# Altium schematic symbol library Transrs.SchLib: 45 symbols
Pins are listed as number, name and electrical type; pins without a type are passive.

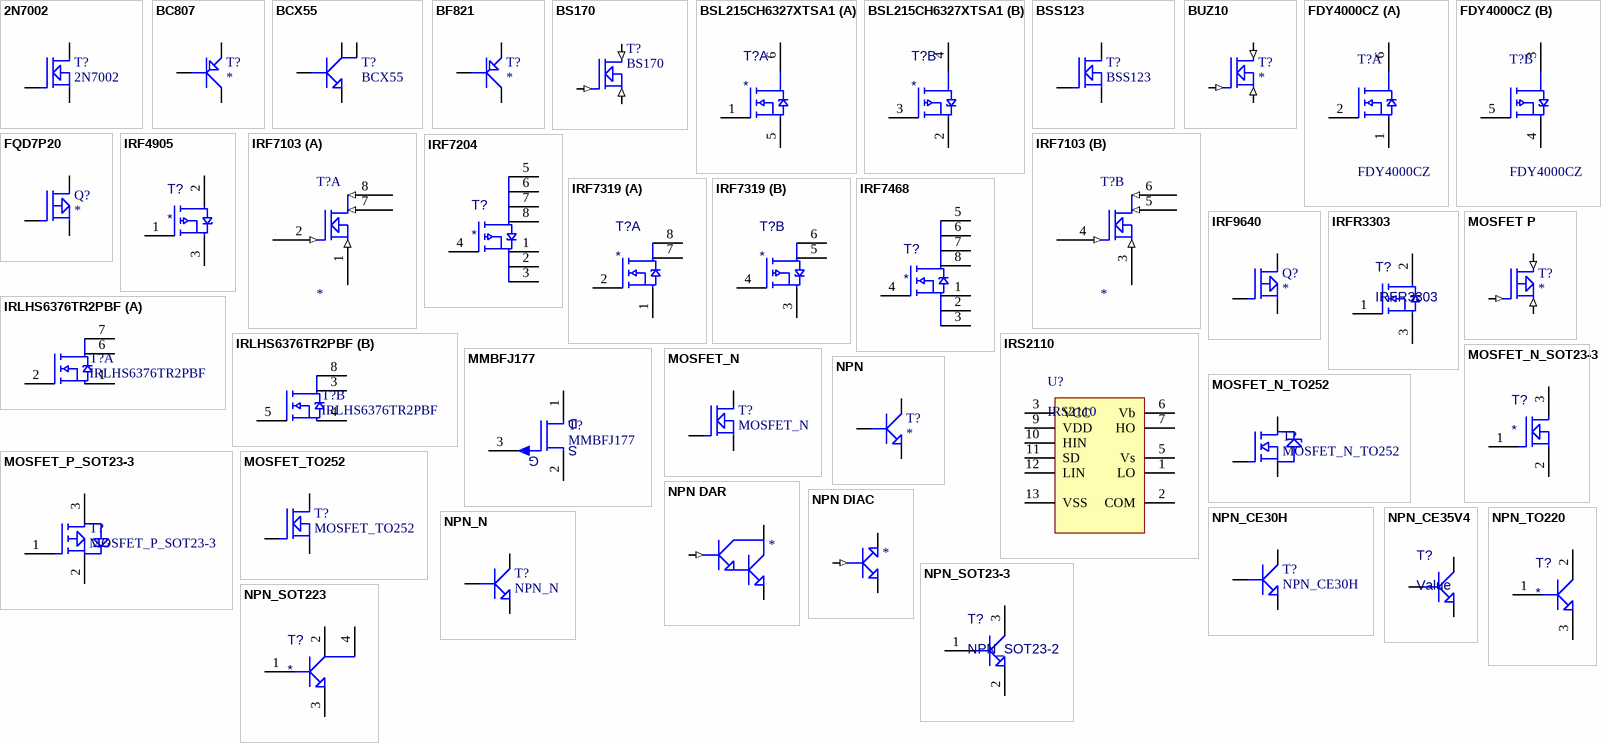
[diagram p0: symbols 2N7002 to NPN_TO220]

## 2N7002
designator T?
Value: 2N7002
simulation model F2N7002 (Power Discrete MOSFET Electrical Circuit Model)
pins: DRAIN, GATE, SOURCE

## BC807
designator T?
footprint BC817
footprint CE35V4
pins: BASE, COLL, EMIT

## BCX55
designator T?
SMD Transistor NPN; Value: BCX55
pins: 1, 2, 3, 4

## BF821
designator T?
simulation model BF821 (Model Description)
pins: BASE, COLL, EMIT

## BS170
designator T?
Value: BS170
footprint CE35V4
pins: BASE (in), COLL (in), EMIT (in)

## BSL215CH6327XTSA1
designator T?
Value: *
part A pins: 1 GATE, 5 SOURCE, 6 DRAIN
part B pins: 2 SOURCE, 3 GATE, 4 DRAIN

## BSS123
designator T?
Value: BSS123
pins: BASE, COLL, EMIT

## BUZ10
designator T?
footprint CE30
footprint CE30H
pins: BASE (in), COLL (in), EMIT (in)

## FDY4000CZ
designator T?
Value: FDY4000CZ
part A pins: 1 SOURCE, 2 GATE, 6 DRAIN
part B pins: 3 DRAIN, 4 SOURCE, 5 GATE

## FQD7P20
designator Q?
simulation model FQD7P20 (FQD7P20 200V P-CHANNEL DMOSFET ELECTRICAL PARAMETERS)
pins: DRAIN, GATE, SOURCE

## IRF4905
designator T?
Value: *
pins: 1 GATE, 2 DRAIN, 3 SOURCE

## IRF7103
designator T?
footprint 8SOIC150
part A pins: 1 SOURCE (in), 2 GATE (in), 7 DRAIN (in), 8 DRAIN (in)
part B pins: 3 SOURCE (in), 4 GATE (in), 5 DRAIN (in), 6 DRAIN (in)

## IRF7204
designator T?
Value: *
pins: 1 GATE, 2 DRAIN, 3 SOURCE, 4, 5, 6, 7, 8

## IRF7319
designator T?
Value: *
part A pins: 1 SOURCE, 2 GATE, 7 DRAIN, 8 DRAIN
part B pins: 3 SOURCE, 4 GATE, 5 DRAIN, 6 DRAIN

## IRF7468
designator T?
Value: *
pins: 1 GATE, 2 DRAIN, 3 SOURCE, 4, 5, 6, 7, 8

## IRF9640
designator Q?
pins: DRAIN, GATE, SOURCE

## IRFR3303
designator T?
Value: IRFR3303
pins: 1 GATE, 2 DRAIN, 3 SOURCE

## IRLHS6376TR2PBF
designator T?
Value: IRLHS6376TR2PBF
part A pins: 1 S1, 2 G1, 6 D1, 7 D1
part B pins: 3 D2, 4 S2, 5 G2, 8 D2

## IRS2110
designator U?
Value: IRS2110
pins: 1 LO, 2 COM, 3 VCC, 5 Vs, 6 Vb, 7 HO, 9 VDD, 10 HIN, 11 SD, 12 LIN, 13 VSS

## MMBFJ177
designator T?
Value: MMBFJ177
pins: 1 DRAIN, 2 SOURCE, 3 GATE
text: D; S; G

## MOSFET P
designator T?
pins: DRAIN (in), GATE (in), SOURCE (in)

## MOSFET_N
designator T?
Value: MOSFET_N
pins: BASE, COLL, EMIT

## MOSFET_N_SOT23-3
designator T?
Value: *
pins: 1 GATE, 2 SOURCE, 3 DRAIN

## MOSFET_N_TO252
designator T?
Value: MOSFET_N_TO252
pins: 1, 2, 3

## MOSFET_P_SOT23-3
designator T?
Value: MOSFET_P_SOT23-3
pins: 1 GATE, 2 SOURCE, 3 DRAIN

## MOSFET_TO252
designator T?
Value: MOSFET_TO252
footprint TO-252
pins: 1, 2, 3

## NPN
designator T?
pins: BASE, COLL, EMIT

## NPN DAR
designator ?
pins: BASE (in), COLL, EMIT

## NPN DIAC
designator ?
pins: BASE (in), COLL, EMIT

## NPN_CE30H
designator T?
Value: NPN_CE30H
pins: BASE, COLL, EMIT

## NPN_CE35V4
designator T?, comment Value
Value: Value
pins: BASE, COLL, EMIT

## NPN_N
designator T?
Value: NPN_N
pins: BASE, COLL, EMIT

## NPN_SOT23-3
designator T?, comment NPN_SOT23-2
Value: NPN_SOT23-2
pins: 1, 2, 3

## NPN_SOT223
designator T?
Value: *
pins: 1, 2, 3, 4

## NPN_TO220
designator T?
Value: *
pins: 1 BASE, 2 COLL, 3 EMIT

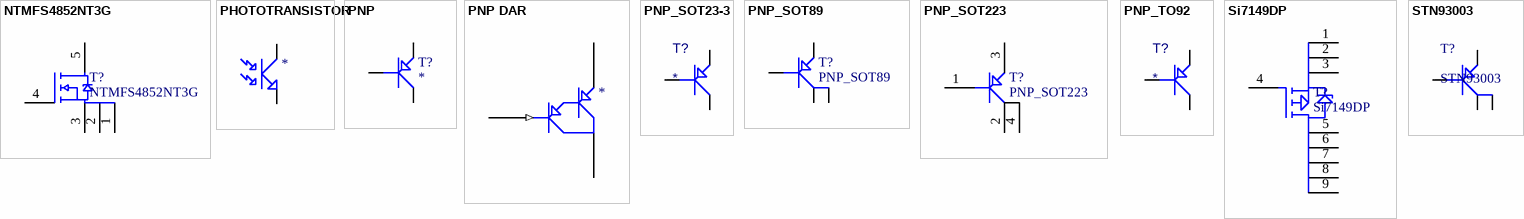
[diagram p1: symbols NTMFS4852NT3G to STN93003]

## NTMFS4852NT3G
designator T?
Value: NTMFS4852NT3G
pins: 1 SOURCE, 2 SOURCE, 3 SOURCE, 4 GATE, 5 DRAIN

## PHOTOTRANSISTOR
designator ?
pins: COLL, EMIT

## PNP
designator T?
pins: BASE, COLL, EMIT

## PNP DAR
designator ?
pins: BASE (in), COLL, EMIT

## PNP_SOT23-3
designator T?
Value: *
pins: 1, 2, 3

## PNP_SOT89
designator T?
Value: PNP_SOT89
pins: 1 EMIT, 2 COLL, 3 BASE, 4 COLL

## PNP_SOT223
designator T?
Value: PNP_SOT223
pins: 1, 2, 3, 4

## PNP_TO92
designator T?
Value: *
pins: 1 EMIT, 2 BASE, 3 COLL

## Si7149DP
designator T?
Value: Si7149DP
pins: 1 SOURCE, 2 SOURCE, 3 SOURCE, 4 GATE, 5 DRAIN, 6 DRAIN, 7 DRAIN, 8 DRAIN, 9 DRAIN

## STN93003
designator T?
Value: STN93003
pins: 1 BASE, 2, 3, 4